# Altium footprint library BD135.PcbLib: 2 footprints
Each footprint in its own frame and in the unit in brackets; x right, y up, seen from the top. Pads: shape width x height; smd on the part's side, far side on the other; paste and mask are expansions set on the pad; w line width, h text height; cw(c..) or ccw(c..) is an arc to the next point about the centre after c.
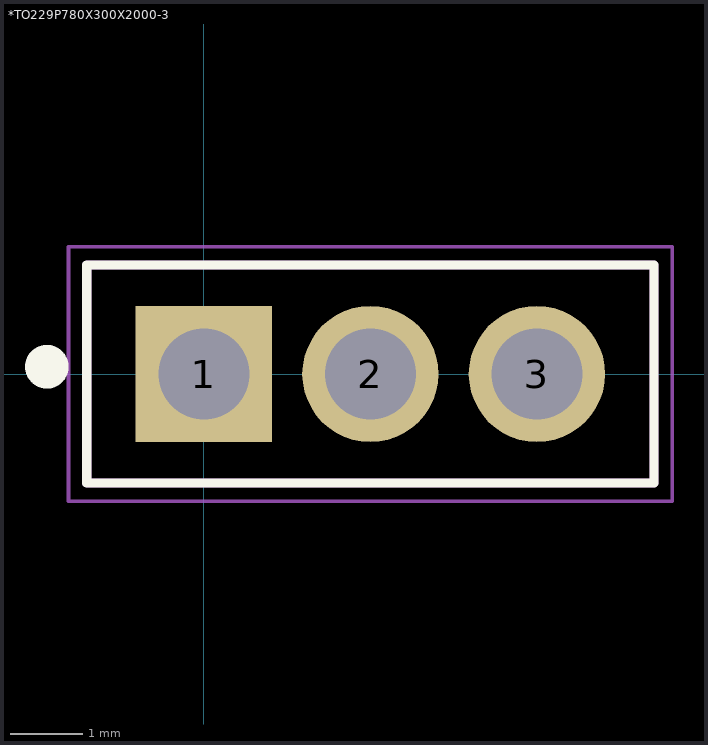
[diagram p0: the footprints below, top view; thin cyan lines are the x and y axes]

## *TO229P780X300X2000-3 [mm]
pads (3):
  rect 1.875x1.875 hole 1.25: 1(0,0)
  round 1.875 hole 1.25: 2(2.29,0) 3(4.58,0)
Top Overlay:
  circle w0.3: c-2.16,0.1 r0.15
  lines w0.127: -1.61,-1.5 6.19,-1.5 6.19,1.5 -1.61,1.5 -1.61,-1.5
Mechanical 13:
  lines w0.127: -1.61,-1.5 -1.61,1.5 ; -1.61,-1.5 6.19,-1.5 ; -1.61,-1.5 -1.61,1.5 ; -1.61,-1.5 6.19,-1.5 ; -1.61,1.5 6.19,1.5 ; -1.61,1.5 6.19,1.5 ; 6.19,-1.5 6.19,1.5 ; 6.19,-1.5 6.19,1.5
Mechanical 15:
  lines w0.05: -1.86,-1.75 -1.86,1.75 6.44,1.75 6.44,-1.75 -1.86,-1.75

## PCBComponent_1 [mm]